# Altium schematic symbol library SPDT_switch_SKY13351-378LF.SchLib: 1 symbol
Pins are listed as number, name and electrical type; pins without a type are passive.

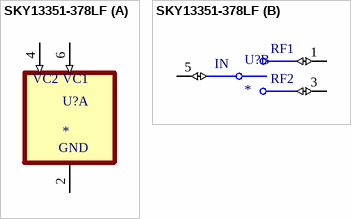
[diagram p0: symbol SKY13351-378LF]

## SKY13351-378LF
designator U?
RF Switch IC 802.11/WiFi, WLAN SPDT 6 GHz 50Ohm 6-MLPD (1x1); MF: Skyworks Solutions; MP: SKY13351-378LF; SnapEDA_Link: https://www.snapeda.com/parts/SKY13351-378LF/Skyworks+Solutions+Inc./view-part/?ref=snap; Package: XFDFN-6 Skyworks Solutions; Value: *; Check_prices: https://www.snapeda.com/parts/SKY13351-378LF/Skyworks+Solutions+Inc./view-part/?ref=eda
footprint QFN6-LF
part A pins: 2 GND (power), 4 VC2 (in), 6 VC1 (in)
part B pins: 1 RF1 (io), 3 RF2 (io), 5 IN (io)